# EAGLE library part NAKED-MEGA-4 (library naked-mega4)
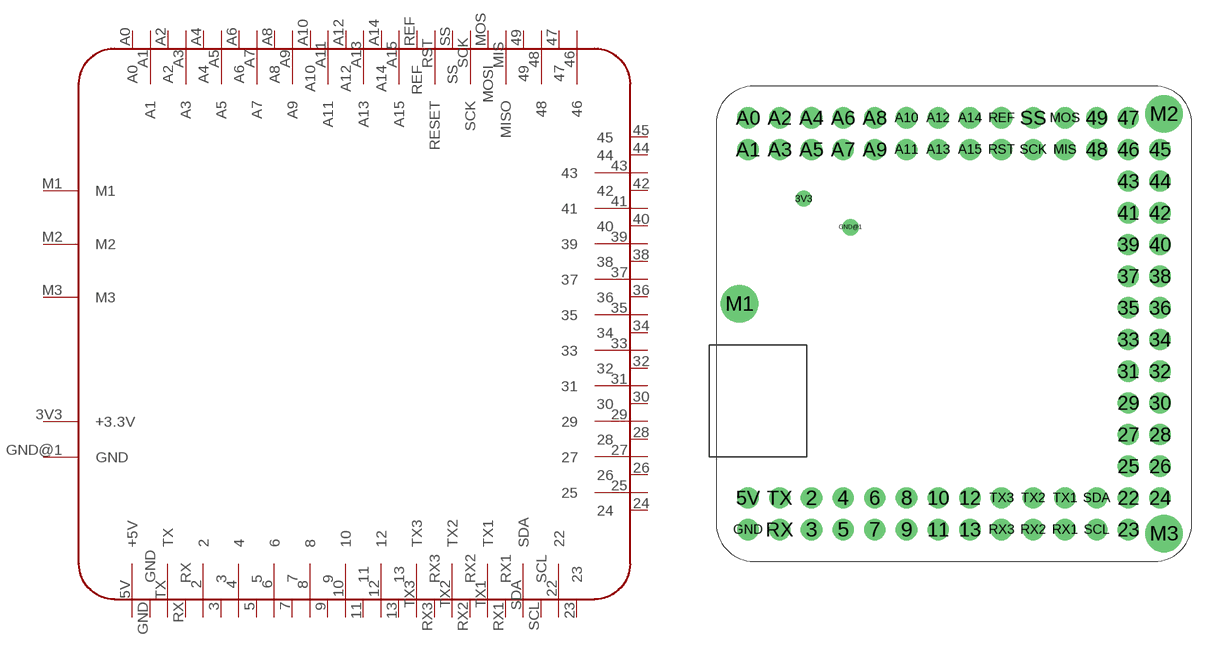
[diagram p0: symbol with the pads of NAKED-MEGA; footprint NAKED-MEGA]

Designator prefix -

## NAKED-MEGA-4  [NAKED-MEGA]
2  2
3  3
3V3  +3.3V
4  4
5  5
5V  +5V
6  6
7  7
8  8
9  9
10  10
11  11
12  12
13  13
22  22
23  23
24  24
25  25
26  26
27  27
28  28
29  29
30  30
31  31
32  32
33  33
34  34
35  35
36  36
37  37
38  38
39  39
40  40
41  41
42  42
43  43
44  44
45  45
46  46
47  47
48  48
49  49
A0  A0
A1  A1
A2  A2
A3  A3
A4  A4
A5  A5
A6  A6
A7  A7
A8  A8
A9  A9
A10  A10
A11  A11
A12  A12
A13  A13
A14  A14
A15  A15
GND  GND
GND@1  GND
M1  M1
M2  M2
M3  M3
MIS  MISO
MOS  MOSI
REF  REF
RST  RESET
RX  RX
RX1  RX1
RX2  RX2
RX3  RX3
SCK  SCK
SCL  SCL
SDA  SDA
SS  SS
TX  TX
TX1  TX1
TX2  TX2
TX3  TX3

## Footprint NAKED-MEGA (pad centres in mm)
drill 0.9 pad 1.7: 2 7.62,5.08; 3 7.62,2.54; 4 10.16,5.08; 5 10.16,2.54; 5V 2.54,5.08; 6 12.7,5.08; 7 12.7,2.54; 8 15.24,5.08; 9 15.24,2.54; 10 17.78,5.08; 11 17.78,2.54; 12 20.32,5.08; 13 20.32,2.54; 22 33.02,5.08; 23 33.02,2.54; 24 35.56,5.08; 25 33.02,7.62; 26 35.56,7.62; 27 33.02,10.16; 28 35.56,10.16; 29 33.02,12.7; 30 35.56,12.7; 31 33.02,15.24; 32 35.56,15.24; 33 33.02,17.78; 34 35.56,17.78; 35 33.02,20.32; 36 35.56,20.32; 37 33.02,22.86; 38 35.56,22.86; 39 33.02,25.4; 40 35.56,25.4; 41 33.02,27.94; 42 35.56,27.94; 43 33.02,30.48; 44 35.56,30.48; 45 35.56,33.02; 46 33.02,33.02; 47 33.02,35.56; 48 30.48,33.02; 49 30.48,35.56; A0 2.54,35.56; A1 2.54,33.02; A2 5.08,35.56; A3 5.08,33.02; A4 7.62,35.56; A5 7.62,33.02; A6 10.16,35.56; A7 10.16,33.02; A8 12.7,35.56; A9 12.7,33.02; A10 15.24,35.56; A11 15.24,33.02; A12 17.78,35.56; A13 17.78,33.02; A14 20.32,35.56; A15 20.32,33.02; GND 2.54,2.54; MIS 27.94,33.02; MOS 27.94,35.56; REF 22.86,35.56; RST 22.86,33.02; RX 5.08,2.54; RX1 27.94,2.54; RX2 25.4,2.54; RX3 22.86,2.54; SCK 25.4,33.02; SCL 30.48,2.54; SDA 30.48,5.08; SS 25.4,35.56; TX 5.08,5.08; TX1 27.94,5.08; TX2 25.4,5.08; TX3 22.86,5.08
drill 0.8 pad 1.25: 3V3 7,29.08; GND@1 10.74,26.79
drill 2 pad 3: M1 1.87,20.65; M2 35.877,35.877; M3 35.877,2.223